# EAGLE library part DS1374U-33+ (library KVB-ICs)
IC RTC BINARY CNT I2C 10-USOP
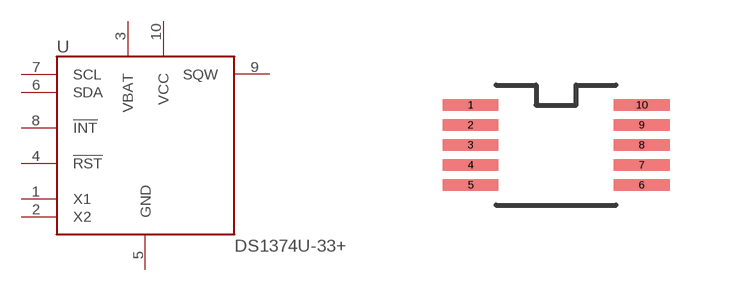
[diagram p2: symbol with the pads of DS1374U-33+; footprint DS1374U-33+]

Designator prefix U

## DS1374U-33+  [DS1374U-33+]
1  X1
2  X2
3  VBAT
4  !RST
5  GND
6  SDA
7  SCL
8  !INT
9  SQW
10  VCC

## Footprint DS1374U-33+ (pad centres in mm)
smd 1.4 x 0.28: 1 -2.14,1; 2 -2.14,0.5; 3 -2.14,0; 4 -2.14,-0.5; 5 -2.14,-1; 6 2.14,-1; 7 2.14,-0.5; 8 2.14,0; 9 2.14,0.5; 10 2.14,1